# Altium integrated library TI_Logic_Specialty_Logic.IntLib: 2504 symbols (part 42 of 81)
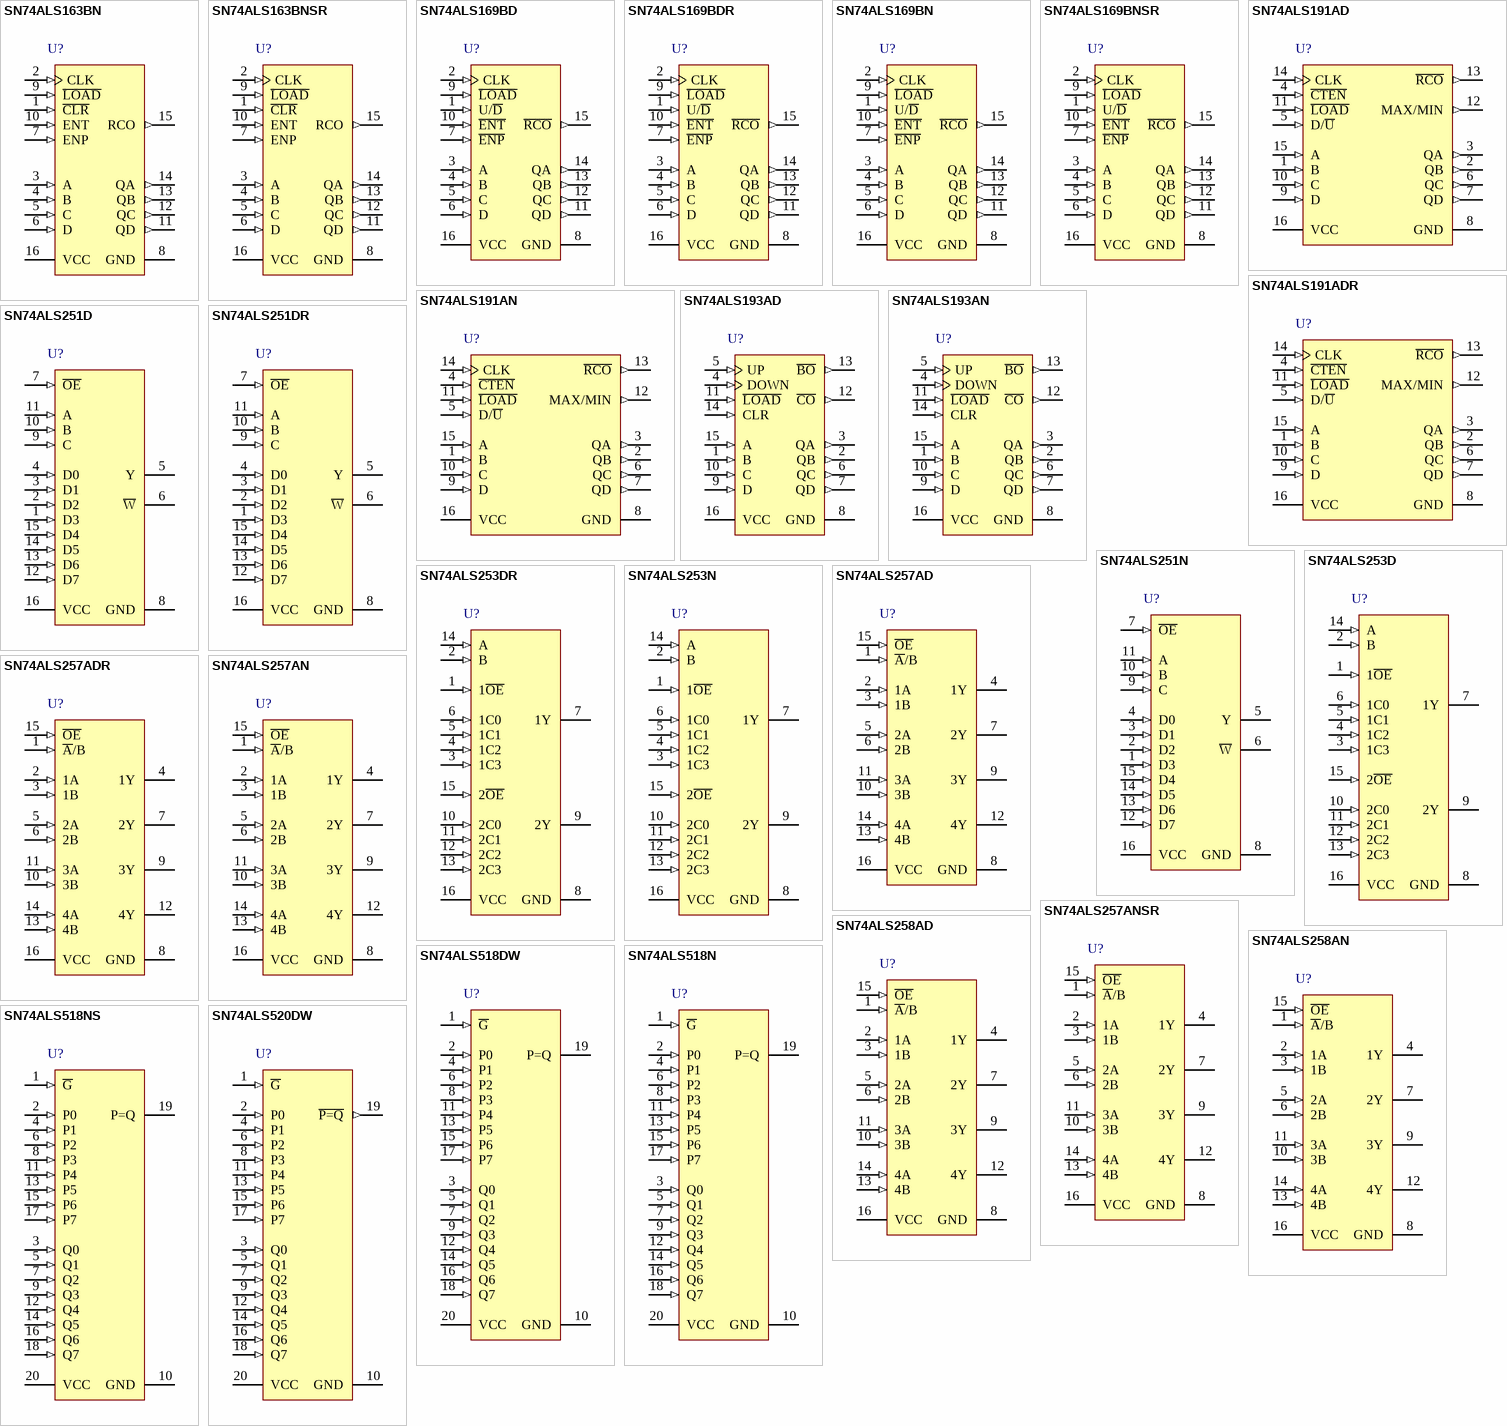
[diagram p145: symbols SN74ALS163BN to SN74ALS520DW]

## SN74ALS169BDR
designator U?
4-Bit Synchronous Up/Down Binary Counters, D0016A, LARGE T&R; Generic Part Number: SN74ALS169B; Manufacturer: Texas Instruments; PartNumber: SN74ALS169BDR; VCC(Min)(V): 4.5; VCC(Max)(V): 5.5; Output Type: CMOS; Inputs: 1; ICC @ Nom Voltage(Max)(mA): 25; Input Type: TTL; Bits(#): 4; F @ Nom Voltage(Max)(Mhz): 75; Rating: Catalog; Technology Family: ALS; Voltage(Nom)(V): 5; Schmitt Trigger: No; Output Drive (IOL/IOH)(Max)(mA): 8/-0.4; tpd @ Nom Voltage(Max)(ns): 20; DatasheetVersion: SDAS125B; PackageReference: D0016A; Supplier 1: Mouser; Supplier Part Number 1: 595-SN74ALS169BDR; Supplier 2: Digi-Key; Supplier Part Number 2: 296-38224-2-ND; Supplier 3: Digi-Key; Supplier Part Number 3: 296-38224-1-ND; Supplier 4: Digi-Key; Supplier Part Number 4: 296-38224-6-ND; Function: Counter; Operating Temperature Range(C): 0 to 70; Type: Binary; Code_JEDEC: MS-012 variation AC; ComponentLink1Description: Manufacturer URL; ComponentLink1URL: http://www.ti.com/; ComponentLink2Description: Datasheet; ComponentLink2URL: http://www.ti.com/lit/ds/symlink/sn74als169b.pdf; ComponentLink3Description: Package Specification; ComponentLink3URL: http://www.ti.com/lit/ml/mpds178g/mpds178g.pdf
footprint D0016A_N (SOIC, 16-Leads, Body 10x4mm, Pitch 1.27mm, IPC Medium Density)
footprint D0016A_M (SOIC, 16-Leads, Body 10x4mm, Pitch 1.27mm, IPC Low Density)
footprint D0016A_L (SOIC, 16-Leads, Body 10x4mm, Pitch 1.27mm, IPC High Density)
pins: 1 U/~{D} (in), 2 CLK (in), 3 A (in), 4 B (in), 5 C (in), 6 D (in), 7 ~{ENP} (in), 8 GND (power), 9 ~{LOAD} (in), 10 ~{ENT} (in), 11 QD (out), 12 QC (out), 13 QB (out), 14 QA (out), 15 ~{RCO} (out), 16 VCC (power)

## SN74ALS169BN
designator U?
4-Bit Synchronous Up/Down Binary Counters, N0016A, TUBE; Generic Part Number: SN74ALS169B; Manufacturer: Texas Instruments; PartNumber: SN74ALS169BN; VCC(Min)(V): 4.5; VCC(Max)(V): 5.5; Output Type: CMOS; Inputs: 1; ICC @ Nom Voltage(Max)(mA): 25; Input Type: TTL; Bits(#): 4; F @ Nom Voltage(Max)(Mhz): 75; Rating: Catalog; Technology Family: ALS; Voltage(Nom)(V): 5; Schmitt Trigger: No; Output Drive (IOL/IOH)(Max)(mA): 8/-0.4; tpd @ Nom Voltage(Max)(ns): 20; DatasheetVersion: SDAS125B; PackageReference: N0016A; Supplier 1: Mouser; Supplier Part Number 1: 595-SN74ALS169BN; Supplier 2: Digi-Key; Supplier Part Number 2: 296-33718-5-ND; Function: Counter; Operating Temperature Range(C): 0 to 70; Type: Binary; Code_JEDEC: MS-001; ComponentLink1Description: Manufacturer URL; ComponentLink1URL: http://www.ti.com/; ComponentLink2Description: Datasheet; ComponentLink2URL: http://www.ti.com/lit/ds/symlink/sn74als169b.pdf; ComponentLink3Description: Package Specification; ComponentLink3URL: http://www.ti.com/lit/ml/mpdi002c/mpdi002c.pdf
footprint N0016A (DIP, 16-Leads, Body 19.7x6.6mm, Pitch 2.54mm)
pins: 1 U/~{D} (in), 2 CLK (in), 3 A (in), 4 B (in), 5 C (in), 6 D (in), 7 ~{ENP} (in), 8 GND (power), 9 ~{LOAD} (in), 10 ~{ENT} (in), 11 QD (out), 12 QC (out), 13 QB (out), 14 QA (out), 15 ~{RCO} (out), 16 VCC (power)

## SN74ALS169BNSR
designator U?
4-Bit Synchronous Up/Down Binary Counters, NS0016A, LARGE T&R; Generic Part Number: SN74ALS169B; Manufacturer: Texas Instruments; PartNumber: SN74ALS169BNSR; VCC(Min)(V): 4.5; VCC(Max)(V): 5.5; Output Type: CMOS; Inputs: 1; ICC @ Nom Voltage(Max)(mA): 25; Input Type: TTL; Bits(#): 4; F @ Nom Voltage(Max)(Mhz): 75; Rating: Catalog; Technology Family: ALS; Voltage(Nom)(V): 5; Schmitt Trigger: No; Output Drive (IOL/IOH)(Max)(mA): 8/-0.4; tpd @ Nom Voltage(Max)(ns): 20; DatasheetVersion: SDAS125B; PackageReference: NS0016A; Supplier 1: Mouser; Supplier Part Number 1: 595-SN74ALS169BNSR; Supplier 2: Digi-Key; Supplier Part Number 2: 296-13148-2-ND; Supplier 3: Digi-Key; Supplier Part Number 3: 296-13148-1-ND; Supplier 4: Digi-Key; Supplier Part Number 4: 296-13148-6-ND; Function: Counter; Operating Temperature Range(C): 0 to 70; Type: Binary; ComponentLink1Description: Manufacturer URL; ComponentLink1URL: http://www.ti.com/; ComponentLink2Description: Datasheet; ComponentLink2URL: http://www.ti.com/lit/ds/symlink/sn74als169b.pdf; ComponentLink3Description: Package Specification; ComponentLink3URL: http://www.ti.com/lit/ml/msop002a/msop002a.pdf
footprint NS0016A_N (SOIC,16-Leads,Body 10.5x5.6mm,Pitch 1.27mm,IPC Medium Density)
footprint NS0016A_M (SOIC,16-Leads,Body 10.5x5.6mm,Pitch 1.27mm,IPC Low Density)
footprint NS0016A_L (SOIC,16-Leads,Body 10.5x5.6mm,Pitch 1.27mm,IPC High Density)
pins: 1 U/~{D} (in), 2 CLK (in), 3 A (in), 4 B (in), 5 C (in), 6 D (in), 7 ~{ENP} (in), 8 GND (power), 9 ~{LOAD} (in), 10 ~{ENT} (in), 11 QD (out), 12 QC (out), 13 QB (out), 14 QA (out), 15 ~{RCO} (out), 16 VCC (power)

## SN74ALS191AD
designator U?
4-Bit Synchronous Up/Down Binary Counters, D0016A, TUBE; Generic Part Number: SN74ALS191A; Manufacturer: Texas Instruments; PartNumber: SN74ALS191AD; VCC(Min)(V): 4.5; VCC(Max)(V): 5.5; Output Type: CMOS; Inputs: 1; ICC @ Nom Voltage(Max)(mA): 22; Input Type: TTL; Bits(#): 4; F @ Nom Voltage(Max)(Mhz): 75; Rating: Catalog; Technology Family: ALS; Voltage(Nom)(V): 5; Schmitt Trigger: No; Output Drive (IOL/IOH)(Max)(mA): 8/-0.4; tpd @ Nom Voltage(Max)(ns): 31; DatasheetVersion: SDAS210C; PackageReference: D0016A; Supplier 1: Mouser; Supplier Part Number 1: 595-SN74ALS191AD; Supplier 2: Digi-Key; Supplier Part Number 2: SN74ALS191AD-ND; Function: Counter; Operating Temperature Range(C): 0 to 70; Type: Binary; Code_JEDEC: MS-012 variation AC; ComponentLink1Description: Manufacturer URL; ComponentLink1URL: http://www.ti.com/; ComponentLink2Description: Datasheet; ComponentLink2URL: http://www.ti.com/lit/ds/symlink/sn74als191a.pdf; ComponentLink3Description: Package Specification; ComponentLink3URL: http://www.ti.com/lit/ml/mpds178g/mpds178g.pdf
footprint D0016A_N (SOIC, 16-Leads, Body 10x4mm, Pitch 1.27mm, IPC Medium Density)
footprint D0016A_M (SOIC, 16-Leads, Body 10x4mm, Pitch 1.27mm, IPC Low Density)
footprint D0016A_L (SOIC, 16-Leads, Body 10x4mm, Pitch 1.27mm, IPC High Density)
pins: 1 B (in), 2 QB (out), 3 QA (out), 4 ~{CTEN} (in), 5 D/~{U} (in), 6 QC (out), 7 QD (out), 8 GND (power), 9 D (in), 10 C (in), 11 ~{LOAD} (in), 12 MAX/MIN (out), 13 ~{RCO} (out), 14 CLK (in), 15 A (in), 16 VCC (power)

## SN74ALS191ADR
designator U?
4-Bit Synchronous Up/Down Binary Counters, D0016A, LARGE T&R; Generic Part Number: SN74ALS191A; Manufacturer: Texas Instruments; PartNumber: SN74ALS191ADR; VCC(Min)(V): 4.5; VCC(Max)(V): 5.5; Output Type: CMOS; Inputs: 1; ICC @ Nom Voltage(Max)(mA): 22; Input Type: TTL; Bits(#): 4; F @ Nom Voltage(Max)(Mhz): 75; Rating: Catalog; Technology Family: ALS; Voltage(Nom)(V): 5; Schmitt Trigger: No; Output Drive (IOL/IOH)(Max)(mA): 8/-0.4; tpd @ Nom Voltage(Max)(ns): 31; DatasheetVersion: SDAS210C; PackageReference: D0016A; Supplier 1: Mouser; Supplier Part Number 1: 595-SN74ALS191ADR; Supplier 2: Digi-Key; Supplier Part Number 2: 296-29442-2-ND; Supplier 3: Digi-Key; Supplier Part Number 3: 296-29442-1-ND; Supplier 4: Digi-Key; Supplier Part Number 4: 296-29442-6-ND; Function: Counter; Operating Temperature Range(C): 0 to 70; Type: Binary; Code_JEDEC: MS-012 variation AC; ComponentLink1Description: Manufacturer URL; ComponentLink1URL: http://www.ti.com/; ComponentLink2Description: Datasheet; ComponentLink2URL: http://www.ti.com/lit/ds/symlink/sn74als191a.pdf; ComponentLink3Description: Package Specification; ComponentLink3URL: http://www.ti.com/lit/ml/mpds178g/mpds178g.pdf
footprint D0016A_N (SOIC, 16-Leads, Body 10x4mm, Pitch 1.27mm, IPC Medium Density)
footprint D0016A_M (SOIC, 16-Leads, Body 10x4mm, Pitch 1.27mm, IPC Low Density)
footprint D0016A_L (SOIC, 16-Leads, Body 10x4mm, Pitch 1.27mm, IPC High Density)
pins: 1 B (in), 2 QB (out), 3 QA (out), 4 ~{CTEN} (in), 5 D/~{U} (in), 6 QC (out), 7 QD (out), 8 GND (power), 9 D (in), 10 C (in), 11 ~{LOAD} (in), 12 MAX/MIN (out), 13 ~{RCO} (out), 14 CLK (in), 15 A (in), 16 VCC (power)

## SN74ALS191AN
designator U?
4-Bit Synchronous Up/Down Binary Counters, N0016A, TUBE; Generic Part Number: SN74ALS191A; Manufacturer: Texas Instruments; PartNumber: SN74ALS191AN; VCC(Min)(V): 4.5; VCC(Max)(V): 5.5; Output Type: CMOS; Inputs: 1; ICC @ Nom Voltage(Max)(mA): 22; Input Type: TTL; Bits(#): 4; F @ Nom Voltage(Max)(Mhz): 75; Rating: Catalog; Technology Family: ALS; Voltage(Nom)(V): 5; Schmitt Trigger: No; Output Drive (IOL/IOH)(Max)(mA): 8/-0.4; tpd @ Nom Voltage(Max)(ns): 31; DatasheetVersion: SDAS210C; PackageReference: N0016A; Supplier 1: Mouser; Supplier Part Number 1: 595-SN74ALS191AN; Supplier 2: Digi-Key; Supplier Part Number 2: 296-5034-5-ND; Function: Counter; Operating Temperature Range(C): 0 to 70; Type: Binary; Code_JEDEC: MS-001; ComponentLink1Description: Manufacturer URL; ComponentLink1URL: http://www.ti.com/; ComponentLink2Description: Datasheet; ComponentLink2URL: http://www.ti.com/lit/ds/symlink/sn74als191a.pdf; ComponentLink3Description: Package Specification; ComponentLink3URL: http://www.ti.com/lit/ml/mpdi002c/mpdi002c.pdf
footprint N0016A (DIP, 16-Leads, Body 19.7x6.6mm, Pitch 2.54mm)
pins: 1 B (in), 2 QB (out), 3 QA (out), 4 ~{CTEN} (in), 5 D/~{U} (in), 6 QC (out), 7 QD (out), 8 GND (power), 9 D (in), 10 C (in), 11 ~{LOAD} (in), 12 MAX/MIN (out), 13 ~{RCO} (out), 14 CLK (in), 15 A (in), 16 VCC (power)

## SN74ALS193AD
designator U?
4-Bit Synchronous Up/Down Binary Counters With Dual Clock and Clear, D0016A, TUBE; Generic Part Number: SN74ALS193A; Manufacturer: Texas Instruments; PartNumber: SN74ALS193AD; VCC(Min)(V): 4.5; VCC(Max)(V): 5.5; Output Type: CMOS; Inputs: 1; ICC @ Nom Voltage(Max)(mA): 22; Input Type: TTL; Bits(#): 4; F @ Nom Voltage(Max)(Mhz): 75; Rating: Catalog; Technology Family: ALS; Voltage(Nom)(V): 5; Schmitt Trigger: No; Output Drive (IOL/IOH)(Max)(mA): 8/-0.4; tpd @ Nom Voltage(Max)(ns): 30; DatasheetVersion: SDAS211C; PackageReference: D0016A; Supplier 1: Mouser; Supplier Part Number 1: 595-SN74ALS193AD; Supplier 2: Digi-Key; Supplier Part Number 2: 296-5035-5-ND; Function: Counter; Operating Temperature Range(C): 0 to 70; Type: Binary; Code_JEDEC: MS-012 variation AC; ComponentLink1Description: Manufacturer URL; ComponentLink1URL: http://www.ti.com/; ComponentLink2Description: Datasheet; ComponentLink2URL: http://www.ti.com/lit/ds/symlink/sn74als193a.pdf; ComponentLink3Description: Package Specification; ComponentLink3URL: http://www.ti.com/lit/ml/mpds178g/mpds178g.pdf
footprint D0016A_N (SOIC, 16-Leads, Body 10x4mm, Pitch 1.27mm, IPC Medium Density)
footprint D0016A_M (SOIC, 16-Leads, Body 10x4mm, Pitch 1.27mm, IPC Low Density)
footprint D0016A_L (SOIC, 16-Leads, Body 10x4mm, Pitch 1.27mm, IPC High Density)
pins: 1 B (in), 2 QB (out), 3 QA (out), 4 DOWN (in), 5 UP (in), 6 QC (out), 7 QD (out), 8 GND (power), 9 D (in), 10 C (in), 11 ~{LOAD} (in), 12 ~{CO} (out), 13 ~{BO} (out), 14 CLR (in), 15 A (in), 16 VCC (power)

## SN74ALS193AN
designator U?
4-Bit Synchronous Up/Down Binary Counters With Dual Clock and Clear, N0016A, TUBE; Generic Part Number: SN74ALS193A; Manufacturer: Texas Instruments; PartNumber: SN74ALS193AN; VCC(Min)(V): 4.5; VCC(Max)(V): 5.5; Output Type: CMOS; Inputs: 1; ICC @ Nom Voltage(Max)(mA): 22; Input Type: TTL; Bits(#): 4; F @ Nom Voltage(Max)(Mhz): 75; Rating: Catalog; Technology Family: ALS; Voltage(Nom)(V): 5; Schmitt Trigger: No; Output Drive (IOL/IOH)(Max)(mA): 8/-0.4; tpd @ Nom Voltage(Max)(ns): 30; DatasheetVersion: SDAS211C; PackageReference: N0016A; Supplier 1: Mouser; Supplier Part Number 1: 595-SN74ALS193AN; Supplier 2: Digi-Key; Supplier Part Number 2: 296-14722-5-ND; Function: Counter; Operating Temperature Range(C): 0 to 70; Type: Binary; Code_JEDEC: MS-001; ComponentLink1Description: Manufacturer URL; ComponentLink1URL: http://www.ti.com/; ComponentLink2Description: Datasheet; ComponentLink2URL: http://www.ti.com/lit/ds/symlink/sn74als193a.pdf; ComponentLink3Description: Package Specification; ComponentLink3URL: http://www.ti.com/lit/ml/mpdi002c/mpdi002c.pdf
footprint N0016A (DIP, 16-Leads, Body 19.7x6.6mm, Pitch 2.54mm)
pins: 1 B (in), 2 QB (out), 3 QA (out), 4 DOWN (in), 5 UP (in), 6 QC (out), 7 QD (out), 8 GND (power), 9 D (in), 10 C (in), 11 ~{LOAD} (in), 12 ~{CO} (out), 13 ~{BO} (out), 14 CLR (in), 15 A (in), 16 VCC (power)

## SN74ALS251D
designator U?
1-of-8 Data Selectors/Multiplexers With 3-State Outputs, D0016A, TUBE; Generic Part Number: SN74ALS251; Manufacturer: Texas Instruments; PartNumber: SN74ALS251D; VCC(Min)(V): 4.5; VCC(Max)(V): 5.5; Output Type: TTL; Function: Encoder/Multiplexer; ICC @ Nom Voltage(Max)(mA): 14; Bits(#): 8; F @ Nom Voltage(Max)(Mhz): 75; Configuration: 8：1; Channels(#): 1; Rating: Catalog; Technology Family: ALS; Voltage(Nom)(V): 5; Schmitt Trigger: No; Output Drive (IOL/IOH)(Max)(mA): 24/-2.6; tpd @ Nom Voltage(Max)(ns): 24; DatasheetVersion: SDAS215A; PackageReference: D0016A; Supplier 1: Mouser; Supplier Part Number 1: 595-SN74ALS251D; Supplier 2: Digi-Key; Supplier Part Number 2: 296-33728-5-ND; Input Type: TTL; Operating Temperature Range(C): 0 to 70; Type: 3-State Output; Code_JEDEC: MS-012 variation AC; ComponentLink1Description: Manufacturer URL; ComponentLink1URL: http://www.ti.com/; ComponentLink2Description: Datasheet; ComponentLink2URL: http://www.ti.com/lit/ds/symlink/sn74als251.pdf; ComponentLink3Description: Package Specification; ComponentLink3URL: http://www.ti.com/lit/ml/mpds178g/mpds178g.pdf
footprint D0016A_N (SOIC, 16-Leads, Body 10x4mm, Pitch 1.27mm, IPC Medium Density)
footprint D0016A_M (SOIC, 16-Leads, Body 10x4mm, Pitch 1.27mm, IPC Low Density)
footprint D0016A_L (SOIC, 16-Leads, Body 10x4mm, Pitch 1.27mm, IPC High Density)
pins: 1 D3 (in), 2 D2 (in), 3 D1 (in), 4 D0 (in), 5 Y (hiz), 6 ~{W} (hiz), 7 ~{OE} (in), 8 GND (power), 9 C (in), 10 B (in), 11 A (in), 12 D7 (in), 13 D6 (in), 14 D5 (in), 15 D4 (in), 16 VCC (power)

## SN74ALS251DR
designator U?
1-of-8 Data Selectors/Multiplexers With 3-State Outputs, D0016A, LARGE T&R; Generic Part Number: SN74ALS251; Manufacturer: Texas Instruments; PartNumber: SN74ALS251DR; VCC(Min)(V): 4.5; VCC(Max)(V): 5.5; Output Type: TTL; Function: Encoder/Multiplexer; ICC @ Nom Voltage(Max)(mA): 14; Bits(#): 8; F @ Nom Voltage(Max)(Mhz): 75; Configuration: 8：1; Channels(#): 1; Rating: Catalog; Technology Family: ALS; Voltage(Nom)(V): 5; Schmitt Trigger: No; Output Drive (IOL/IOH)(Max)(mA): 24/-2.6; tpd @ Nom Voltage(Max)(ns): 24; DatasheetVersion: SDAS215A; PackageReference: D0016A; Supplier 1: Mouser; Supplier Part Number 1: 595-SN74ALS251DR; Supplier 2: Digi-Key; Supplier Part Number 2: 296-29443-2-ND; Supplier 3: Digi-Key; Supplier Part Number 3: 296-29443-1-ND; Supplier 4: Digi-Key; Supplier Part Number 4: 296-29443-6-ND; Input Type: TTL; Operating Temperature Range(C): 0 to 70; Type: 3-State Output; Code_JEDEC: MS-012 variation AC; ComponentLink1Description: Manufacturer URL; ComponentLink1URL: http://www.ti.com/; ComponentLink2Description: Datasheet; ComponentLink2URL: http://www.ti.com/lit/ds/symlink/sn74als251.pdf; ComponentLink3Description: Package Specification; ComponentLink3URL: http://www.ti.com/lit/ml/mpds178g/mpds178g.pdf
footprint D0016A_N (SOIC, 16-Leads, Body 10x4mm, Pitch 1.27mm, IPC Medium Density)
footprint D0016A_M (SOIC, 16-Leads, Body 10x4mm, Pitch 1.27mm, IPC Low Density)
footprint D0016A_L (SOIC, 16-Leads, Body 10x4mm, Pitch 1.27mm, IPC High Density)
pins: 1 D3 (in), 2 D2 (in), 3 D1 (in), 4 D0 (in), 5 Y (hiz), 6 ~{W} (hiz), 7 ~{OE} (in), 8 GND (power), 9 C (in), 10 B (in), 11 A (in), 12 D7 (in), 13 D6 (in), 14 D5 (in), 15 D4 (in), 16 VCC (power)

## SN74ALS251N
designator U?
1-of-8 Data Selectors/Multiplexers With 3-State Outputs, N0016A, TUBE; Generic Part Number: SN74ALS251; Manufacturer: Texas Instruments; PartNumber: SN74ALS251N; VCC(Min)(V): 4.5; VCC(Max)(V): 5.5; Output Type: TTL; Function: Encoder/Multiplexer; ICC @ Nom Voltage(Max)(mA): 14; Bits(#): 8; F @ Nom Voltage(Max)(Mhz): 75; Configuration: 8：1; Channels(#): 1; Rating: Catalog; Technology Family: ALS; Voltage(Nom)(V): 5; Schmitt Trigger: No; Output Drive (IOL/IOH)(Max)(mA): 24/-2.6; tpd @ Nom Voltage(Max)(ns): 24; DatasheetVersion: SDAS215A; PackageReference: N0016A; Supplier 1: Mouser; Supplier Part Number 1: 595-SN74ALS251N; Supplier 2: Digi-Key; Supplier Part Number 2: 296-33729-5-ND; Input Type: TTL; Operating Temperature Range(C): 0 to 70; Type: 3-State Output; Code_JEDEC: MS-001; ComponentLink1Description: Manufacturer URL; ComponentLink1URL: http://www.ti.com/; ComponentLink2Description: Datasheet; ComponentLink2URL: http://www.ti.com/lit/ds/symlink/sn74als251.pdf; ComponentLink3Description: Package Specification; ComponentLink3URL: http://www.ti.com/lit/ml/mpdi002c/mpdi002c.pdf
footprint N0016A (DIP, 16-Leads, Body 19.7x6.6mm, Pitch 2.54mm)
pins: 1 D3 (in), 2 D2 (in), 3 D1 (in), 4 D0 (in), 5 Y (hiz), 6 ~{W} (hiz), 7 ~{OE} (in), 8 GND (power), 9 C (in), 10 B (in), 11 A (in), 12 D7 (in), 13 D6 (in), 14 D5 (in), 15 D4 (in), 16 VCC (power)

## SN74ALS253D
designator U?
Dual 1-of-4 Data Selectors/Multiplexers With 3-State Outputs, D0016A, TUBE; Generic Part Number: SN74ALS253; Manufacturer: Texas Instruments; PartNumber: SN74ALS253D; VCC(Min)(V): 4.5; VCC(Max)(V): 5.5; Output Type: TTL; Function: Encoder/Multiplexer; ICC @ Nom Voltage(Max)(mA): 14; Bits(#): 4; F @ Nom Voltage(Max)(Mhz): 75; Configuration: 4：1; Channels(#): 2; Rating: Catalog; Technology Family: ALS; Voltage(Nom)(V): 5; Schmitt Trigger: No; Output Drive (IOL/IOH)(Max)(mA): 24/-2.6; tpd @ Nom Voltage(Max)(ns): 21; DatasheetVersion: SDAS216A; PackageReference: D0016A; Supplier 1: Mouser; Supplier Part Number 1: 595-SN74ALS253D; Supplier 2: Digi-Key; Supplier Part Number 2: 296-33730-5-ND; Input Type: TTL; Operating Temperature Range(C): 0 to 70; Type: 3-State Output; Code_JEDEC: MS-012 variation AC; ComponentLink1Description: Manufacturer URL; ComponentLink1URL: http://www.ti.com/; ComponentLink2Description: Datasheet; ComponentLink2URL: http://www.ti.com/lit/ds/symlink/sn74als253.pdf; ComponentLink3Description: Package Specification; ComponentLink3URL: http://www.ti.com/lit/ml/mpds178g/mpds178g.pdf
footprint D0016A_N (SOIC, 16-Leads, Body 10x4mm, Pitch 1.27mm, IPC Medium Density)
footprint D0016A_M (SOIC, 16-Leads, Body 10x4mm, Pitch 1.27mm, IPC Low Density)
footprint D0016A_L (SOIC, 16-Leads, Body 10x4mm, Pitch 1.27mm, IPC High Density)
pins: 1 1~{OE} (in), 2 B (in), 3 1C3 (in), 4 1C2 (in), 5 1C1 (in), 6 1C0 (in), 7 1Y (hiz), 8 GND (power), 9 2Y (hiz), 10 2C0 (in), 11 2C1 (in), 12 2C2 (in), 13 2C3 (in), 14 A (in), 15 2~{OE} (in), 16 VCC (power)

## SN74ALS253DR
designator U?
Dual 1-of-4 Data Selectors/Multiplexers With 3-State Outputs, D0016A, LARGE T&R; Generic Part Number: SN74ALS253; Manufacturer: Texas Instruments; PartNumber: SN74ALS253DR; VCC(Min)(V): 4.5; VCC(Max)(V): 5.5; Output Type: TTL; Function: Encoder/Multiplexer; ICC @ Nom Voltage(Max)(mA): 14; Bits(#): 4; F @ Nom Voltage(Max)(Mhz): 75; Configuration: 4：1; Channels(#): 2; Rating: Catalog; Technology Family: ALS; Voltage(Nom)(V): 5; Schmitt Trigger: No; Output Drive (IOL/IOH)(Max)(mA): 24/-2.6; tpd @ Nom Voltage(Max)(ns): 21; DatasheetVersion: SDAS216A; PackageReference: D0016A; Supplier 1: Mouser; Supplier Part Number 1: 595-SN74ALS253DR; Supplier 2: Digi-Key; Supplier Part Number 2: SN74ALS253DR-ND; Input Type: TTL; Operating Temperature Range(C): 0 to 70; Type: 3-State Output; Code_JEDEC: MS-012 variation AC; ComponentLink1Description: Manufacturer URL; ComponentLink1URL: http://www.ti.com/; ComponentLink2Description: Datasheet; ComponentLink2URL: http://www.ti.com/lit/ds/symlink/sn74als253.pdf; ComponentLink3Description: Package Specification; ComponentLink3URL: http://www.ti.com/lit/ml/mpds178g/mpds178g.pdf
footprint D0016A_N (SOIC, 16-Leads, Body 10x4mm, Pitch 1.27mm, IPC Medium Density)
footprint D0016A_M (SOIC, 16-Leads, Body 10x4mm, Pitch 1.27mm, IPC Low Density)
footprint D0016A_L (SOIC, 16-Leads, Body 10x4mm, Pitch 1.27mm, IPC High Density)
pins: 1 1~{OE} (in), 2 B (in), 3 1C3 (in), 4 1C2 (in), 5 1C1 (in), 6 1C0 (in), 7 1Y (hiz), 8 GND (power), 9 2Y (hiz), 10 2C0 (in), 11 2C1 (in), 12 2C2 (in), 13 2C3 (in), 14 A (in), 15 2~{OE} (in), 16 VCC (power)

## SN74ALS253N
designator U?
Dual 1-of-4 Data Selectors/Multiplexers With 3-State Outputs, N0016A, TUBE; Generic Part Number: SN74ALS253; Manufacturer: Texas Instruments; PartNumber: SN74ALS253N; VCC(Min)(V): 4.5; VCC(Max)(V): 5.5; Output Type: TTL; Function: Encoder/Multiplexer; ICC @ Nom Voltage(Max)(mA): 14; Bits(#): 4; F @ Nom Voltage(Max)(Mhz): 75; Configuration: 4：1; Channels(#): 2; Rating: Catalog; Technology Family: ALS; Voltage(Nom)(V): 5; Schmitt Trigger: No; Output Drive (IOL/IOH)(Max)(mA): 24/-2.6; tpd @ Nom Voltage(Max)(ns): 21; DatasheetVersion: SDAS216A; PackageReference: N0016A; Supplier 1: Mouser; Supplier Part Number 1: 595-SN74ALS253N; Supplier 2: Digi-Key; Supplier Part Number 2: 296-33731-5-ND; Input Type: TTL; Operating Temperature Range(C): 0 to 70; Type: 3-State Output; Code_JEDEC: MS-001; ComponentLink1Description: Manufacturer URL; ComponentLink1URL: http://www.ti.com/; ComponentLink2Description: Datasheet; ComponentLink2URL: http://www.ti.com/lit/ds/symlink/sn74als253.pdf; ComponentLink3Description: Package Specification; ComponentLink3URL: http://www.ti.com/lit/ml/mpdi002c/mpdi002c.pdf
footprint N0016A (DIP, 16-Leads, Body 19.7x6.6mm, Pitch 2.54mm)
pins: 1 1~{OE} (in), 2 B (in), 3 1C3 (in), 4 1C2 (in), 5 1C1 (in), 6 1C0 (in), 7 1Y (hiz), 8 GND (power), 9 2Y (hiz), 10 2C0 (in), 11 2C1 (in), 12 2C2 (in), 13 2C3 (in), 14 A (in), 15 2~{OE} (in), 16 VCC (power)

## SN74ALS257AD
designator U?
Quadruple 2-Line To 1-Line Data Selectors/Multiplexers With 3-State Outputs, D0016A, TUBE; Generic Part Number: SN74ALS257A; Manufacturer: Texas Instruments; PartNumber: SN74ALS257AD; VCC(Min)(V): 4.5; VCC(Max)(V): 5.5; Output Type: TTL; Function: Encoder/Multiplexer; ICC @ Nom Voltage(Max)(mA): 14; Bits(#): 2; F @ Nom Voltage(Max)(Mhz): 75; Configuration: 2：1; Channels(#): 4; Rating: Catalog; Technology Family: ALS; Voltage(Nom)(V): 5; Schmitt Trigger: No; Output Drive (IOL/IOH)(Max)(mA): 24/-2.6; tpd @ Nom Voltage(Max)(ns): 12; DatasheetVersion: SDAS124C; PackageReference: D0016A; Supplier 1: Mouser; Supplier Part Number 1: 595-SN74ALS257AD; Supplier 2: Digi-Key; Supplier Part Number 2: 296-5050-5-ND; Input Type: TTL; Operating Temperature Range(C): 0 to 70; Type: 3-State Output; Code_JEDEC: MS-012 variation AC; ComponentLink1Description: Manufacturer URL; ComponentLink1URL: http://www.ti.com/; ComponentLink2Description: Datasheet; ComponentLink2URL: http://www.ti.com/lit/ds/symlink/sn74als257a.pdf; ComponentLink3Description: Package Specification; ComponentLink3URL: http://www.ti.com/lit/ml/mpds178g/mpds178g.pdf
footprint D0016A_N (SOIC, 16-Leads, Body 10x4mm, Pitch 1.27mm, IPC Medium Density)
footprint D0016A_M (SOIC, 16-Leads, Body 10x4mm, Pitch 1.27mm, IPC Low Density)
footprint D0016A_L (SOIC, 16-Leads, Body 10x4mm, Pitch 1.27mm, IPC High Density)
pins: 1 ~{A}/B (in), 2 1A (in), 3 1B (in), 4 1Y (hiz), 5 2A (in), 6 2B (in), 7 2Y (hiz), 8 GND (power), 9 3Y (hiz), 10 3B (in), 11 3A (in), 12 4Y (hiz), 13 4B (in), 14 4A (in), 15 ~{OE} (in), 16 VCC (power)

## SN74ALS257ADR
designator U?
Quadruple 2-Line To 1-Line Data Selectors/Multiplexers With 3-State Outputs, D0016A, LARGE T&R; Generic Part Number: SN74ALS257A; Manufacturer: Texas Instruments; PartNumber: SN74ALS257ADR; VCC(Min)(V): 4.5; VCC(Max)(V): 5.5; Output Type: TTL; Function: Encoder/Multiplexer; ICC @ Nom Voltage(Max)(mA): 14; Bits(#): 2; F @ Nom Voltage(Max)(Mhz): 75; Configuration: 2：1; Channels(#): 4; Rating: Catalog; Technology Family: ALS; Voltage(Nom)(V): 5; Schmitt Trigger: No; Output Drive (IOL/IOH)(Max)(mA): 24/-2.6; tpd @ Nom Voltage(Max)(ns): 12; DatasheetVersion: SDAS124C; PackageReference: D0016A; Supplier 1: Mouser; Supplier Part Number 1: 595-SN74ALS257ADR; Supplier 2: Digi-Key; Supplier Part Number 2: 296-14728-2-ND; Supplier 3: Digi-Key; Supplier Part Number 3: 296-14728-1-ND; Supplier 4: Digi-Key; Supplier Part Number 4: 296-14728-6-ND; Input Type: TTL; Operating Temperature Range(C): 0 to 70; Type: 3-State Output; Code_JEDEC: MS-012 variation AC; ComponentLink1Description: Manufacturer URL; ComponentLink1URL: http://www.ti.com/; ComponentLink2Description: Datasheet; ComponentLink2URL: http://www.ti.com/lit/ds/symlink/sn74als257a.pdf; ComponentLink3Description: Package Specification; ComponentLink3URL: http://www.ti.com/lit/ml/mpds178g/mpds178g.pdf
footprint D0016A_N (SOIC, 16-Leads, Body 10x4mm, Pitch 1.27mm, IPC Medium Density)
footprint D0016A_M (SOIC, 16-Leads, Body 10x4mm, Pitch 1.27mm, IPC Low Density)
footprint D0016A_L (SOIC, 16-Leads, Body 10x4mm, Pitch 1.27mm, IPC High Density)
pins: 1 ~{A}/B (in), 2 1A (in), 3 1B (in), 4 1Y (hiz), 5 2A (in), 6 2B (in), 7 2Y (hiz), 8 GND (power), 9 3Y (hiz), 10 3B (in), 11 3A (in), 12 4Y (hiz), 13 4B (in), 14 4A (in), 15 ~{OE} (in), 16 VCC (power)

## SN74ALS257AN
designator U?
Quadruple 2-Line To 1-Line Data Selectors/Multiplexers With 3-State Outputs, N0016A, TUBE; Generic Part Number: SN74ALS257A; Manufacturer: Texas Instruments; PartNumber: SN74ALS257AN; VCC(Min)(V): 4.5; VCC(Max)(V): 5.5; Output Type: TTL; Function: Encoder/Multiplexer; ICC @ Nom Voltage(Max)(mA): 14; Bits(#): 2; F @ Nom Voltage(Max)(Mhz): 75; Configuration: 2：1; Channels(#): 4; Rating: Catalog; Technology Family: ALS; Voltage(Nom)(V): 5; Schmitt Trigger: No; Output Drive (IOL/IOH)(Max)(mA): 24/-2.6; tpd @ Nom Voltage(Max)(ns): 12; DatasheetVersion: SDAS124C; PackageReference: N0016A; Supplier 1: Mouser; Supplier Part Number 1: 595-SN74ALS257AN; Supplier 2: Digi-Key; Supplier Part Number 2: 296-5051-5-ND; Input Type: TTL; Operating Temperature Range(C): 0 to 70; Type: 3-State Output; Code_JEDEC: MS-001; ComponentLink1Description: Manufacturer URL; ComponentLink1URL: http://www.ti.com/; ComponentLink2Description: Datasheet; ComponentLink2URL: http://www.ti.com/lit/ds/symlink/sn74als257a.pdf; ComponentLink3Description: Package Specification; ComponentLink3URL: http://www.ti.com/lit/ml/mpdi002c/mpdi002c.pdf
footprint N0016A (DIP, 16-Leads, Body 19.7x6.6mm, Pitch 2.54mm)
pins: 1 ~{A}/B (in), 2 1A (in), 3 1B (in), 4 1Y (hiz), 5 2A (in), 6 2B (in), 7 2Y (hiz), 8 GND (power), 9 3Y (hiz), 10 3B (in), 11 3A (in), 12 4Y (hiz), 13 4B (in), 14 4A (in), 15 ~{OE} (in), 16 VCC (power)

## SN74ALS257ANSR
designator U?
Quadruple 2-Line To 1-Line Data Selectors/Multiplexers With 3-State Outputs, NS0016A, LARGE T&R; Generic Part Number: SN74ALS257A; Manufacturer: Texas Instruments; PartNumber: SN74ALS257ANSR; VCC(Min)(V): 4.5; VCC(Max)(V): 5.5; Output Type: TTL; Function: Encoder/Multiplexer; ICC @ Nom Voltage(Max)(mA): 14; Bits(#): 2; F @ Nom Voltage(Max)(Mhz): 75; Configuration: 2：1; Channels(#): 4; Rating: Catalog; Technology Family: ALS; Voltage(Nom)(V): 5; Schmitt Trigger: No; Output Drive (IOL/IOH)(Max)(mA): 24/-2.6; tpd @ Nom Voltage(Max)(ns): 12; DatasheetVersion: SDAS124C; PackageReference: NS0016A; Supplier 1: Mouser; Supplier Part Number 1: 595-SN74ALS257ANSR; Supplier 2: Digi-Key; Supplier Part Number 2: 296-29171-2-ND; Supplier 3: Digi-Key; Supplier Part Number 3: 296-29171-1-ND; Supplier 4: Digi-Key; Supplier Part Number 4: 296-29171-6-ND; Input Type: TTL; Operating Temperature Range(C): 0 to 70; Type: 3-State Output; ComponentLink1Description: Manufacturer URL; ComponentLink1URL: http://www.ti.com/; ComponentLink2Description: Datasheet; ComponentLink2URL: http://www.ti.com/lit/ds/symlink/sn74als257a.pdf; ComponentLink3Description: Package Specification; ComponentLink3URL: http://www.ti.com/lit/ml/msop002a/msop002a.pdf
footprint NS0016A_N (SOIC,16-Leads,Body 10.5x5.6mm,Pitch 1.27mm,IPC Medium Density)
footprint NS0016A_M (SOIC,16-Leads,Body 10.5x5.6mm,Pitch 1.27mm,IPC Low Density)
footprint NS0016A_L (SOIC,16-Leads,Body 10.5x5.6mm,Pitch 1.27mm,IPC High Density)
pins: 1 ~{A}/B (in), 2 1A (in), 3 1B (in), 4 1Y (hiz), 5 2A (in), 6 2B (in), 7 2Y (hiz), 8 GND (power), 9 3Y (hiz), 10 3B (in), 11 3A (in), 12 4Y (hiz), 13 4B (in), 14 4A (in), 15 ~{OE} (in), 16 VCC (power)

## SN74ALS258AD
designator U?
Quadruple 2-Line To 1-Line Data Selectors/Multiplexers With 3-State Outputs, D0016A, TUBE; Generic Part Number: SN74ALS258A; Manufacturer: Texas Instruments; PartNumber: SN74ALS258AD; VCC(Min)(V): 4.5; VCC(Max)(V): 5.5; Output Type: TTL; Function: Encoder/Multiplexer; ICC @ Nom Voltage(Max)(mA): 13; Bits(#): 2; F @ Nom Voltage(Max)(Mhz): 75; Configuration: 2：1; Channels(#): 4; Rating: Catalog; Technology Family: ALS; Voltage(Nom)(V): 5; Schmitt Trigger: No; Output Drive (IOL/IOH)(Max)(mA): 24/-2.6; tpd @ Nom Voltage(Max)(ns): 8; DatasheetVersion: SDAS124C; PackageReference: D0016A; Supplier 1: Mouser; Supplier Part Number 1: 595-SN74ALS258AD; Supplier 2: Digi-Key; Supplier Part Number 2: 296-5052-5-ND; Input Type: TTL; Operating Temperature Range(C): 0 to 70; Type: 3-State Output; Code_JEDEC: MS-012 variation AC; ComponentLink1Description: Manufacturer URL; ComponentLink1URL: http://www.ti.com/; ComponentLink2Description: Datasheet; ComponentLink2URL: http://www.ti.com/lit/ds/symlink/sn74als258a.pdf; ComponentLink3Description: Package Specification; ComponentLink3URL: http://www.ti.com/lit/ml/mpds178g/mpds178g.pdf
footprint D0016A_N (SOIC, 16-Leads, Body 10x4mm, Pitch 1.27mm, IPC Medium Density)
footprint D0016A_M (SOIC, 16-Leads, Body 10x4mm, Pitch 1.27mm, IPC Low Density)
footprint D0016A_L (SOIC, 16-Leads, Body 10x4mm, Pitch 1.27mm, IPC High Density)
pins: 1 ~{A}/B (in), 2 1A (in), 3 1B (in), 4 1Y (hiz), 5 2A (in), 6 2B (in), 7 2Y (hiz), 8 GND (power), 9 3Y (hiz), 10 3B (in), 11 3A (in), 12 4Y (hiz), 13 4B (in), 14 4A (in), 15 ~{OE} (in), 16 VCC (power)

## SN74ALS258AN
designator U?
Quadruple 2-Line To 1-Line Data Selectors/Multiplexers With 3-State Outputs, N0016A, TUBE; Generic Part Number: SN74ALS258A; Manufacturer: Texas Instruments; PartNumber: SN74ALS258AN; VCC(Min)(V): 4.5; VCC(Max)(V): 5.5; Output Type: TTL; Function: Encoder/Multiplexer; ICC @ Nom Voltage(Max)(mA): 13; Bits(#): 2; F @ Nom Voltage(Max)(Mhz): 75; Configuration: 2：1; Channels(#): 4; Rating: Catalog; Technology Family: ALS; Voltage(Nom)(V): 5; Schmitt Trigger: No; Output Drive (IOL/IOH)(Max)(mA): 24/-2.6; tpd @ Nom Voltage(Max)(ns): 8; DatasheetVersion: SDAS124C; PackageReference: N0016A; Supplier 1: Mouser; Supplier Part Number 1: 595-SN74ALS258AN; Supplier 2: Digi-Key; Supplier Part Number 2: SN74ALS258AN-ND; Input Type: TTL; Operating Temperature Range(C): 0 to 70; Type: 3-State Output; Code_JEDEC: MS-001; ComponentLink1Description: Manufacturer URL; ComponentLink1URL: http://www.ti.com/; ComponentLink2Description: Datasheet; ComponentLink2URL: http://www.ti.com/lit/ds/symlink/sn74als258a.pdf; ComponentLink3Description: Package Specification; ComponentLink3URL: http://www.ti.com/lit/ml/mpdi002c/mpdi002c.pdf
footprint N0016A (DIP, 16-Leads, Body 19.7x6.6mm, Pitch 2.54mm)
pins: 1 ~{A}/B (in), 2 1A (in), 3 1B (in), 4 1Y (hiz), 5 2A (in), 6 2B (in), 7 2Y (hiz), 8 GND (power), 9 3Y (hiz), 10 3B (in), 11 3A (in), 12 4Y (hiz), 13 4B (in), 14 4A (in), 15 ~{OE} (in), 16 VCC (power)

## SN74ALS518DW
designator U?
8-Bit Identity Comparators (P=Q) w/ Enable, Open Collector Outputs, 20K Ohm Q-Input Pullup Resistor, DW0020A, TUBE; Generic Part Number: SN74ALS518; Manufacturer: Texas Instruments; PartNumber: SN74ALS518DW; VCC(Min)(V): 4.5; VCC(Max)(V): 5.5; Output Type: TTL; ICC @ Nom Voltage(Max)(mA): 17; Bits(#): 8; F @ Nom Voltage(Max)(Mhz): 75; Rating: Catalog; Technology Family: ALS; Schmitt Trigger: No; Output Drive (IOL/IOH)(Max)(mA): 24/-0.1; tpd @ Nom Voltage(Max)(ns): 33; DatasheetVersion: SDAS224B; PackageReference: DW0020A; Supplier 1: Mouser; Supplier Part Number 1: 595-SN74ALS518DW; Supplier 2: Digi-Key; Supplier Part Number 2: 296-33741-5-ND; Input Type: TTL; Operating Temperature Range(C): 0 to 70; Voltage(Nom)(V): 5.5; ComponentLink1Description: Manufacturer URL; ComponentLink1URL: http://www.ti.com/; ComponentLink2Description: Datasheet; ComponentLink2URL: http://www.ti.com/lit/ds/symlink/sn74als518.pdf
footprint DW0020A_N (SOIC, 20-Leads, Body 13x7.6mm, Pitch 1.27mm, IPC Medium Density)
footprint DW0020A_M (SOIC, 20-Leads, Body 13x7.6mm, Pitch 1.27mm, IPC Low Density)
footprint DW0020A_L (SOIC, 20-Leads, Body 13x7.6mm, Pitch 1.27mm, IPC High Density)
pins: 1 ~{G} (in), 2 P0 (in), 3 Q0 (in), 4 P1 (in), 5 Q1 (in), 6 P2 (in), 7 Q2 (in), 8 P3 (in), 9 Q3 (in), 10 GND (power), 11 P4 (in), 12 Q4 (in), 13 P5 (in), 14 Q5 (in), 15 P6 (in), 16 Q6 (in), 17 P7 (in), 18 Q7 (in), 19 P=Q (oc), 20 VCC (power)

## SN74ALS518N
designator U?
8-Bit Identity Comparators (P=Q) w/ Enable, Open Collector Outputs, 20K Ohm Q-Input Pullup Resistor, N0020A, TUBE; Generic Part Number: SN74ALS518; Manufacturer: Texas Instruments; PartNumber: SN74ALS518N; VCC(Min)(V): 4.5; VCC(Max)(V): 5.5; Output Type: TTL; ICC @ Nom Voltage(Max)(mA): 17; Bits(#): 8; F @ Nom Voltage(Max)(Mhz): 75; Rating: Catalog; Technology Family: ALS; Schmitt Trigger: No; Output Drive (IOL/IOH)(Max)(mA): 24/-0.1; tpd @ Nom Voltage(Max)(ns): 33; DatasheetVersion: SDAS224B; PackageReference: N0020A; Supplier 1: Mouser; Supplier Part Number 1: 595-SN74ALS518N; Supplier 2: Digi-Key; Supplier Part Number 2: 296-33742-5-ND; Input Type: TTL; Operating Temperature Range(C): 0 to 70; Voltage(Nom)(V): 5.5; ComponentLink1Description: Manufacturer URL; ComponentLink1URL: http://www.ti.com/; ComponentLink2Description: Datasheet; ComponentLink2URL: http://www.ti.com/lit/ds/symlink/sn74als518.pdf
footprint N0020A (DIP, 20-Leads, Body 26.9x6.6mm, Pitch 2.54mm)
pins: 1 ~{G} (in), 2 P0 (in), 3 Q0 (in), 4 P1 (in), 5 Q1 (in), 6 P2 (in), 7 Q2 (in), 8 P3 (in), 9 Q3 (in), 10 GND (power), 11 P4 (in), 12 Q4 (in), 13 P5 (in), 14 Q5 (in), 15 P6 (in), 16 Q6 (in), 17 P7 (in), 18 Q7 (in), 19 P=Q (oc), 20 VCC (power)

## SN74ALS518NS
designator U?
8-Bit Identity Comparators (P=Q) w/ Enable, Open Collector Outputs, 20K Ohm Q-Input Pullup Resistor, NS0020A; Generic Part Number: SN74ALS518; Manufacturer: Texas Instruments; PartNumber: SN74ALS518NS; VCC(Min)(V): 4.5; VCC(Max)(V): 5.5; Output Type: TTL; ICC @ Nom Voltage(Max)(mA): 17; Bits(#): 8; F @ Nom Voltage(Max)(Mhz): 75; Rating: Catalog; Technology Family: ALS; Schmitt Trigger: No; Output Drive (IOL/IOH)(Max)(mA): 24/-0.1; tpd @ Nom Voltage(Max)(ns): 33; DatasheetVersion: SDAS224B; PackageReference: NS0020A; Supplier 1: Mouser; Supplier Part Number 1: N/A; Input Type: TTL; Operating Temperature Range(C): 0 to 70; Voltage(Nom)(V): 5.5; ComponentLink1Description: Manufacturer URL; ComponentLink1URL: http://www.ti.com/; ComponentLink2Description: Datasheet; ComponentLink2URL: http://www.ti.com/lit/ds/symlink/sn74als518.pdf
footprint NS0020A_N (SOIC,20-Leads,Body 12.9x5.6mm,Pitch 1.27mm,IPC Medium Density)
footprint NS0020A_M (SOIC,20-Leads,Body 12.9x5.6mm,Pitch 1.27mm,IPC Low Density)
footprint NS0020A_L (SOIC,20-Leads,Body 12.9x5.6mm,Pitch 1.27mm,IPC High Density)
pins: 1 ~{G} (in), 2 P0 (in), 3 Q0 (in), 4 P1 (in), 5 Q1 (in), 6 P2 (in), 7 Q2 (in), 8 P3 (in), 9 Q3 (in), 10 GND (power), 11 P4 (in), 12 Q4 (in), 13 P5 (in), 14 Q5 (in), 15 P6 (in), 16 Q6 (in), 17 P7 (in), 18 Q7 (in), 19 P=Q (oc), 20 VCC (power)

## SN74ALS520DW
designator U?
8-Bit Identity Comparators (P=Q) with Enable and 20K Ohm Q-Input Pullup Resistors, DW0020A, TUBE; Generic Part Number: SN74ALS520; Manufacturer: Texas Instruments; PartNumber: SN74ALS520DW; VCC(Min)(V): 4.5; VCC(Max)(V): 5.5; Output Type: TTL; ICC @ Nom Voltage(Max)(mA): 19; Bits(#): 8; F @ Nom Voltage(Max)(Mhz): 75; Rating: Catalog; Technology Family: ALS; Schmitt Trigger: No; Output Drive (IOL/IOH)(Max)(mA): 24/-2.6; tpd @ Nom Voltage(Max)(ns): 20; DatasheetVersion: SDAS224B; PackageReference: DW0020A; Supplier 1: Mouser; Supplier Part Number 1: 595-SN74ALS520DW; Supplier 2: Digi-Key; Supplier Part Number 2: 296-5061-5-ND; Input Type: TTL; Operating Temperature Range(C): 0 to 70; Voltage(Nom)(V): 5.5; ComponentLink1Description: Manufacturer URL; ComponentLink1URL: http://www.ti.com/; ComponentLink2Description: Datasheet; ComponentLink2URL: http://www.ti.com/lit/ds/symlink/sn74als520.pdf
footprint DW0020A_N (SOIC, 20-Leads, Body 13x7.6mm, Pitch 1.27mm, IPC Medium Density)
footprint DW0020A_M (SOIC, 20-Leads, Body 13x7.6mm, Pitch 1.27mm, IPC Low Density)
footprint DW0020A_L (SOIC, 20-Leads, Body 13x7.6mm, Pitch 1.27mm, IPC High Density)
pins: 1 ~{G} (in), 2 P0 (in), 3 Q0 (in), 4 P1 (in), 5 Q1 (in), 6 P2 (in), 7 Q2 (in), 8 P3 (in), 9 Q3 (in), 10 GND (power), 11 P4 (in), 12 Q4 (in), 13 P5 (in), 14 Q5 (in), 15 P6 (in), 16 Q6 (in), 17 P7 (in), 18 Q7 (in), 19 ~{P=Q} (out), 20 VCC (power)

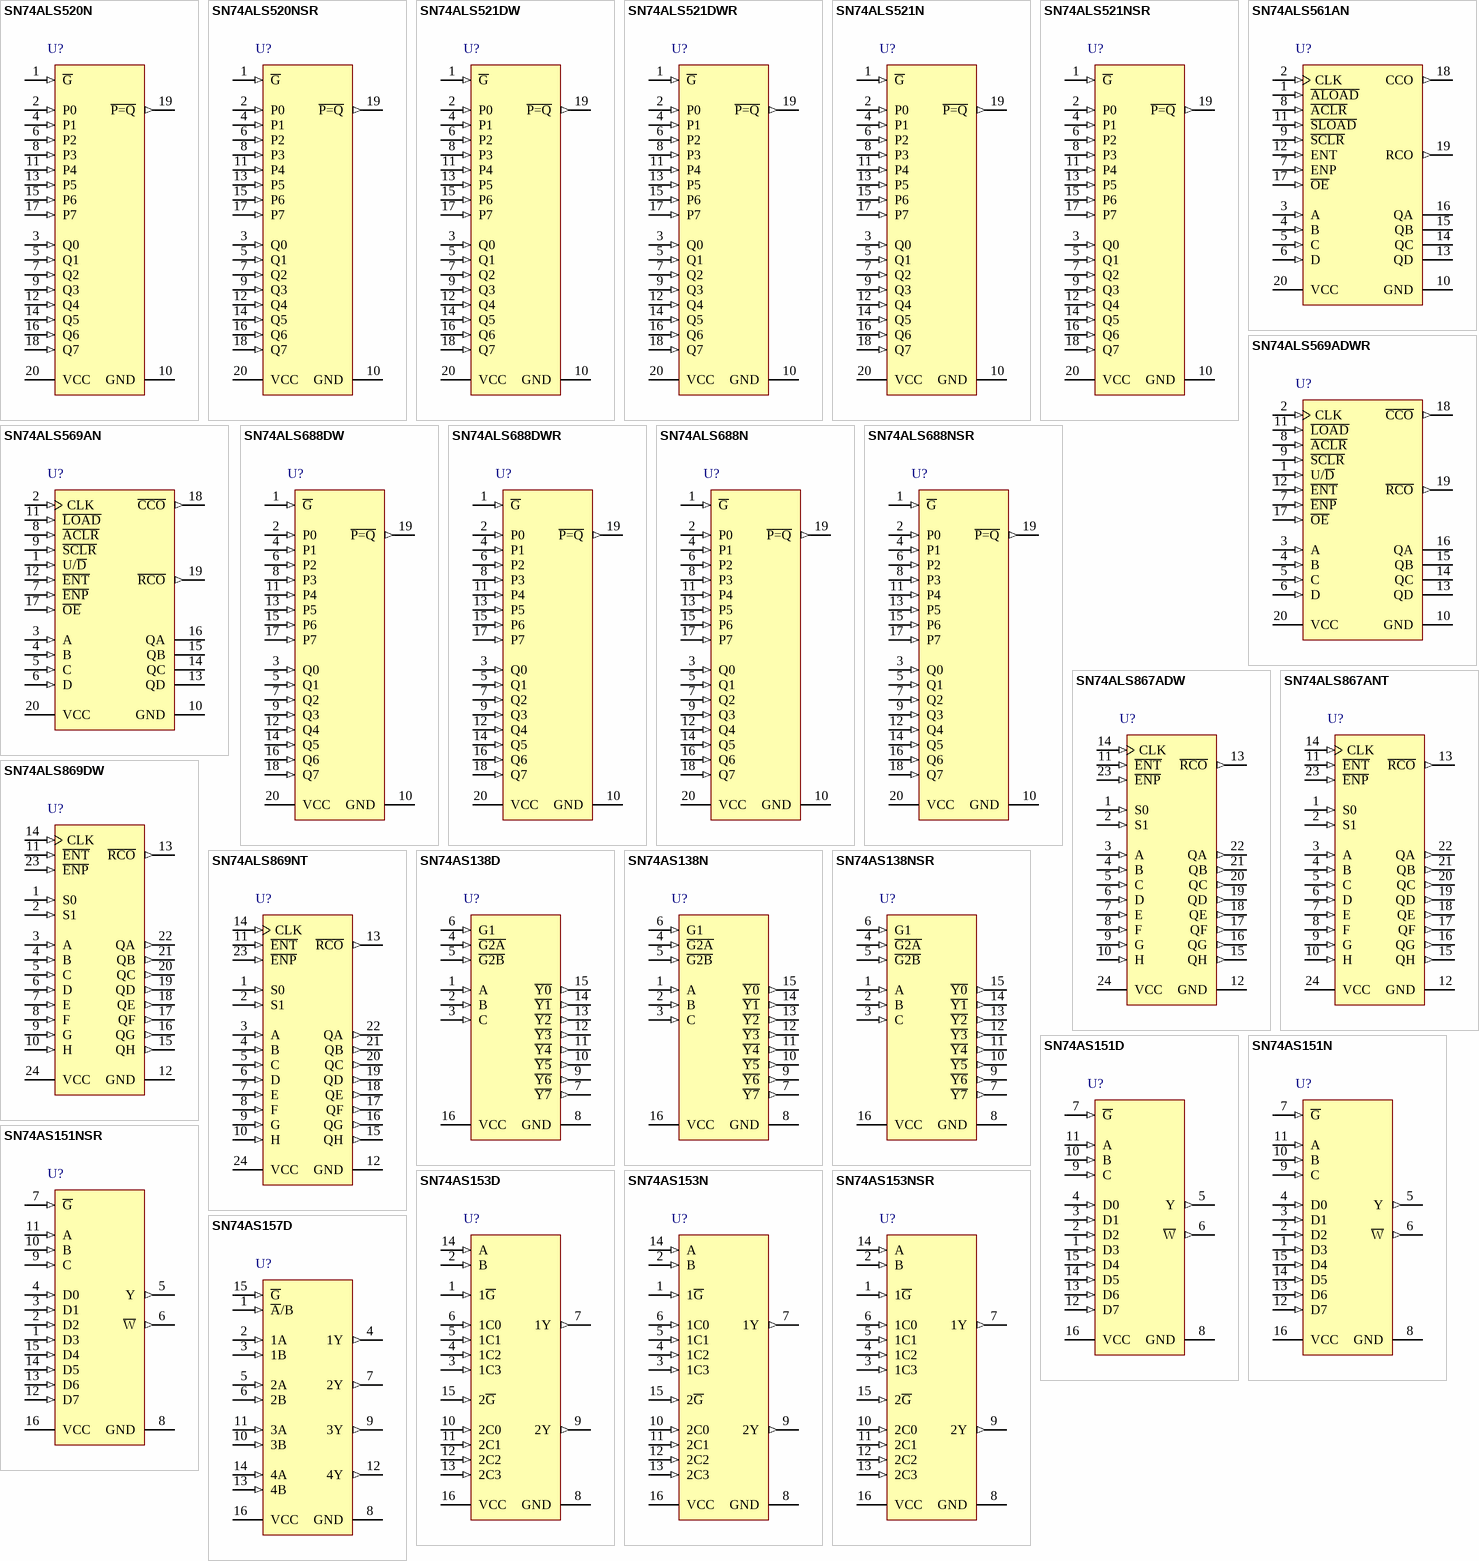
[diagram p55: symbols SN74ALS520N to SN74AS157D]

## SN74ALS520N
designator U?
8-Bit Identity Comparators (P=Q) with Enable and 20K Ohm Q-Input Pullup Resistors, N0020A, TUBE; Generic Part Number: SN74ALS520; Manufacturer: Texas Instruments; PartNumber: SN74ALS520N; VCC(Min)(V): 4.5; VCC(Max)(V): 5.5; Output Type: TTL; ICC @ Nom Voltage(Max)(mA): 19; Bits(#): 8; F @ Nom Voltage(Max)(Mhz): 75; Rating: Catalog; Technology Family: ALS; Schmitt Trigger: No; Output Drive (IOL/IOH)(Max)(mA): 24/-2.6; tpd @ Nom Voltage(Max)(ns): 20; DatasheetVersion: SDAS224B; PackageReference: N0020A; Supplier 1: Mouser; Supplier Part Number 1: 595-SN74ALS520N; Supplier 2: Digi-Key; Supplier Part Number 2: 296-14739-5-ND; Input Type: TTL; Operating Temperature Range(C): 0 to 70; Voltage(Nom)(V): 5.5; ComponentLink1Description: Manufacturer URL; ComponentLink1URL: http://www.ti.com/; ComponentLink2Description: Datasheet; ComponentLink2URL: http://www.ti.com/lit/ds/symlink/sn74als520.pdf
footprint N0020A (DIP, 20-Leads, Body 26.9x6.6mm, Pitch 2.54mm)
pins: 1 ~{G} (in), 2 P0 (in), 3 Q0 (in), 4 P1 (in), 5 Q1 (in), 6 P2 (in), 7 Q2 (in), 8 P3 (in), 9 Q3 (in), 10 GND (power), 11 P4 (in), 12 Q4 (in), 13 P5 (in), 14 Q5 (in), 15 P6 (in), 16 Q6 (in), 17 P7 (in), 18 Q7 (in), 19 ~{P=Q} (out), 20 VCC (power)

## SN74ALS520NSR
designator U?
8-Bit Identity Comparators (P=Q) with Enable and 20K Ohm Q-Input Pullup Resistors, NS0020A, LARGE T&R; Generic Part Number: SN74ALS520; Manufacturer: Texas Instruments; PartNumber: SN74ALS520NSR; VCC(Min)(V): 4.5; VCC(Max)(V): 5.5; Output Type: TTL; ICC @ Nom Voltage(Max)(mA): 19; Bits(#): 8; F @ Nom Voltage(Max)(Mhz): 75; Rating: Catalog; Technology Family: ALS; Schmitt Trigger: No; Output Drive (IOL/IOH)(Max)(mA): 24/-2.6; tpd @ Nom Voltage(Max)(ns): 20; DatasheetVersion: SDAS224B; PackageReference: NS0020A; Supplier 1: Mouser; Supplier Part Number 1: 595-SN74ALS520NSR; Supplier 2: Digi-Key; Supplier Part Number 2: 296-28845-2-ND; Supplier 3: Digi-Key; Supplier Part Number 3: 296-28845-1-ND; Supplier 4: Digi-Key; Supplier Part Number 4: 296-28845-6-ND; Input Type: TTL; Operating Temperature Range(C): 0 to 70; Voltage(Nom)(V): 5.5; ComponentLink1Description: Manufacturer URL; ComponentLink1URL: http://www.ti.com/; ComponentLink2Description: Datasheet; ComponentLink2URL: http://www.ti.com/lit/ds/symlink/sn74als520.pdf
footprint NS0020A_N (SOIC,20-Leads,Body 12.9x5.6mm,Pitch 1.27mm,IPC Medium Density)
footprint NS0020A_M (SOIC,20-Leads,Body 12.9x5.6mm,Pitch 1.27mm,IPC Low Density)
footprint NS0020A_L (SOIC,20-Leads,Body 12.9x5.6mm,Pitch 1.27mm,IPC High Density)
pins: 1 ~{G} (in), 2 P0 (in), 3 Q0 (in), 4 P1 (in), 5 Q1 (in), 6 P2 (in), 7 Q2 (in), 8 P3 (in), 9 Q3 (in), 10 GND (power), 11 P4 (in), 12 Q4 (in), 13 P5 (in), 14 Q5 (in), 15 P6 (in), 16 Q6 (in), 17 P7 (in), 18 Q7 (in), 19 ~{P=Q} (out), 20 VCC (power)

## SN74ALS521DW
designator U?
8-Bit Identity/Magnitude Comparators (P=Q) with Enable, DW0020A, TUBE; Generic Part Number: SN74ALS521; Manufacturer: Texas Instruments; PartNumber: SN74ALS521DW; VCC(Min)(V): 4.5; VCC(Max)(V): 5.5; Output Type: TTL; ICC @ Nom Voltage(Max)(mA): 19; Bits(#): 8; F @ Nom Voltage(Max)(Mhz): 75; Rating: Catalog; Technology Family: ALS; Schmitt Trigger: No; Output Drive (IOL/IOH)(Max)(mA): 24/-2.6; tpd @ Nom Voltage(Max)(ns): 22; DatasheetVersion: SDAS224B; PackageReference: DW0020A; Supplier 1: Mouser; Supplier Part Number 1: 595-SN74ALS521DW; Supplier 2: Digi-Key; Supplier Part Number 2: 296-5062-5-ND; Input Type: TTL; Operating Temperature Range(C): 0 to 70; Voltage(Nom)(V): 5.5; ComponentLink1Description: Manufacturer URL; ComponentLink1URL: http://www.ti.com/; ComponentLink2Description: Datasheet; ComponentLink2URL: http://www.ti.com/lit/ds/symlink/sn74als521.pdf
footprint DW0020A_N (SOIC, 20-Leads, Body 13x7.6mm, Pitch 1.27mm, IPC Medium Density)
footprint DW0020A_M (SOIC, 20-Leads, Body 13x7.6mm, Pitch 1.27mm, IPC Low Density)
footprint DW0020A_L (SOIC, 20-Leads, Body 13x7.6mm, Pitch 1.27mm, IPC High Density)
pins: 1 ~{G} (in), 2 P0 (in), 3 Q0 (in), 4 P1 (in), 5 Q1 (in), 6 P2 (in), 7 Q2 (in), 8 P3 (in), 9 Q3 (in), 10 GND (power), 11 P4 (in), 12 Q4 (in), 13 P5 (in), 14 Q5 (in), 15 P6 (in), 16 Q6 (in), 17 P7 (in), 18 Q7 (in), 19 ~{P=Q} (out), 20 VCC (power)

## SN74ALS521DWR
designator U?
8-Bit Identity/Magnitude Comparators (P=Q) with Enable, DW0020A, LARGE T&R; Generic Part Number: SN74ALS521; Manufacturer: Texas Instruments; PartNumber: SN74ALS521DWR; VCC(Min)(V): 4.5; VCC(Max)(V): 5.5; Output Type: TTL; ICC @ Nom Voltage(Max)(mA): 19; Bits(#): 8; F @ Nom Voltage(Max)(Mhz): 75; Rating: Catalog; Technology Family: ALS; Schmitt Trigger: No; Output Drive (IOL/IOH)(Max)(mA): 24/-2.6; tpd @ Nom Voltage(Max)(ns): 22; DatasheetVersion: SDAS224B; PackageReference: DW0020A; Supplier 1: Mouser; Supplier Part Number 1: 595-SN74ALS521DWR; Supplier 2: Digi-Key; Supplier Part Number 2: 296-29730-2-ND; Supplier 3: Digi-Key; Supplier Part Number 3: 296-29730-1-ND; Supplier 4: Digi-Key; Supplier Part Number 4: 296-29730-6-ND; Input Type: TTL; Operating Temperature Range(C): 0 to 70; Voltage(Nom)(V): 5.5; ComponentLink1Description: Manufacturer URL; ComponentLink1URL: http://www.ti.com/; ComponentLink2Description: Datasheet; ComponentLink2URL: http://www.ti.com/lit/ds/symlink/sn74als521.pdf
footprint DW0020A_N (SOIC, 20-Leads, Body 13x7.6mm, Pitch 1.27mm, IPC Medium Density)
footprint DW0020A_M (SOIC, 20-Leads, Body 13x7.6mm, Pitch 1.27mm, IPC Low Density)
footprint DW0020A_L (SOIC, 20-Leads, Body 13x7.6mm, Pitch 1.27mm, IPC High Density)
pins: 1 ~{G} (in), 2 P0 (in), 3 Q0 (in), 4 P1 (in), 5 Q1 (in), 6 P2 (in), 7 Q2 (in), 8 P3 (in), 9 Q3 (in), 10 GND (power), 11 P4 (in), 12 Q4 (in), 13 P5 (in), 14 Q5 (in), 15 P6 (in), 16 Q6 (in), 17 P7 (in), 18 Q7 (in), 19 ~{P=Q} (out), 20 VCC (power)

## SN74ALS521N
designator U?
8-Bit Identity/Magnitude Comparators (P=Q) with Enable, N0020A, TUBE; Generic Part Number: SN74ALS521; Manufacturer: Texas Instruments; PartNumber: SN74ALS521N; VCC(Min)(V): 4.5; VCC(Max)(V): 5.5; Output Type: TTL; ICC @ Nom Voltage(Max)(mA): 19; Bits(#): 8; F @ Nom Voltage(Max)(Mhz): 75; Rating: Catalog; Technology Family: ALS; Schmitt Trigger: No; Output Drive (IOL/IOH)(Max)(mA): 24/-2.6; tpd @ Nom Voltage(Max)(ns): 22; DatasheetVersion: SDAS224B; PackageReference: N0020A; Supplier 1: Mouser; Supplier Part Number 1: 595-SN74ALS521N; Supplier 2: Digi-Key; Supplier Part Number 2: 296-33743-5-ND; Input Type: TTL; Operating Temperature Range(C): 0 to 70; Voltage(Nom)(V): 5.5; ComponentLink1Description: Manufacturer URL; ComponentLink1URL: http://www.ti.com/; ComponentLink2Description: Datasheet; ComponentLink2URL: http://www.ti.com/lit/ds/symlink/sn74als521.pdf
footprint N0020A (DIP, 20-Leads, Body 26.9x6.6mm, Pitch 2.54mm)
pins: 1 ~{G} (in), 2 P0 (in), 3 Q0 (in), 4 P1 (in), 5 Q1 (in), 6 P2 (in), 7 Q2 (in), 8 P3 (in), 9 Q3 (in), 10 GND (power), 11 P4 (in), 12 Q4 (in), 13 P5 (in), 14 Q5 (in), 15 P6 (in), 16 Q6 (in), 17 P7 (in), 18 Q7 (in), 19 ~{P=Q} (out), 20 VCC (power)

## SN74ALS521NSR
designator U?
8-Bit Identity/Magnitude Comparators (P=Q) with Enable, NS0020A, LARGE T&R; Generic Part Number: SN74ALS521; Manufacturer: Texas Instruments; PartNumber: SN74ALS521NSR; VCC(Min)(V): 4.5; VCC(Max)(V): 5.5; Output Type: TTL; ICC @ Nom Voltage(Max)(mA): 19; Bits(#): 8; F @ Nom Voltage(Max)(Mhz): 75; Rating: Catalog; Technology Family: ALS; Schmitt Trigger: No; Output Drive (IOL/IOH)(Max)(mA): 24/-2.6; tpd @ Nom Voltage(Max)(ns): 22; DatasheetVersion: SDAS224B; PackageReference: NS0020A; Supplier 1: Mouser; Supplier Part Number 1: 595-SN74ALS521NSR; Supplier 2: Digi-Key; Supplier Part Number 2: 296-13151-2-ND; Supplier 3: Digi-Key; Supplier Part Number 3: 296-13151-1-ND; Supplier 4: Digi-Key; Supplier Part Number 4: 296-13151-6-ND; Input Type: TTL; Operating Temperature Range(C): 0 to 70; Voltage(Nom)(V): 5.5; ComponentLink1Description: Manufacturer URL; ComponentLink1URL: http://www.ti.com/; ComponentLink2Description: Datasheet; ComponentLink2URL: http://www.ti.com/lit/ds/symlink/sn74als521.pdf
footprint NS0020A_N (SOIC,20-Leads,Body 12.9x5.6mm,Pitch 1.27mm,IPC Medium Density)
footprint NS0020A_M (SOIC,20-Leads,Body 12.9x5.6mm,Pitch 1.27mm,IPC Low Density)
footprint NS0020A_L (SOIC,20-Leads,Body 12.9x5.6mm,Pitch 1.27mm,IPC High Density)
pins: 1 ~{G} (in), 2 P0 (in), 3 Q0 (in), 4 P1 (in), 5 Q1 (in), 6 P2 (in), 7 Q2 (in), 8 P3 (in), 9 Q3 (in), 10 GND (power), 11 P4 (in), 12 Q4 (in), 13 P5 (in), 14 Q5 (in), 15 P6 (in), 16 Q6 (in), 17 P7 (in), 18 Q7 (in), 19 ~{P=Q} (out), 20 VCC (power)

## SN74ALS561AN
designator U?
Synchronous 4-Bit Binary Counters With 3-State Outputs, N0020A, TUBE; Generic Part Number: SN74ALS561A; Manufacturer: Texas Instruments; PartNumber: SN74ALS561AN; VCC(Min)(V): 4.5; VCC(Max)(V): 5.5; Output Type: CMOS; Inputs: 1; ICC @ Nom Voltage(Max)(mA): 36; Input Type: TTL; Bits(#): 4; F @ Nom Voltage(Max)(Mhz): 75; Rating: Catalog; Technology Family: ALS; Voltage(Nom)(V): 5; Schmitt Trigger: No; Output Drive (IOL/IOH)(Max)(mA): 24/-2.6; tpd @ Nom Voltage(Max)(ns): 29; DatasheetVersion: SDAS225A; PackageReference: N0020A; Supplier 1: Mouser; Supplier Part Number 1: 595-SN74ALS561AN; Supplier 2: Digi-Key; Supplier Part Number 2: SN74ALS561AN-ND; Function: Counter; Operating Temperature Range(C): 0 to 70; Type: Binary; Code_JEDEC: MS-001; ComponentLink1Description: Manufacturer URL; ComponentLink1URL: http://www.ti.com/; ComponentLink2Description: Datasheet; ComponentLink2URL: http://www.ti.com/lit/ds/symlink/sn74als561a.pdf; ComponentLink3Description: Package Specification; ComponentLink3URL: http://www.ti.com/lit/ml/mpdi002c/mpdi002c.pdf
footprint N0020A (DIP, 20-Leads, Body 26.9x6.6mm, Pitch 2.54mm)
pins: 1 ~{ALOAD} (in), 2 CLK (in), 3 A (in), 4 B (in), 5 C (in), 6 D (in), 7 ENP (in), 8 ~{ACLR} (in), 9 ~{SCLR} (in), 10 GND (power), 11 ~{SLOAD} (in), 12 ENT (in), 13 QD (hiz), 14 QC (hiz), 15 QB (hiz), 16 QA (hiz), 17 ~{OE} (in), 18 CCO (out), 19 RCO (out), 20 VCC (power)

## SN74ALS569ADWR
designator U?
Synchronous 4-Bit Up/Down Binary Counters With 3-State Outputs, DW0020A, LARGE T&R; Generic Part Number: SN74ALS569A; Manufacturer: Texas Instruments; PartNumber: SN74ALS569ADWR; VCC(Min)(V): 4.5; VCC(Max)(V): 5.5; Output Type: CMOS; Inputs: 1; ICC @ Nom Voltage(Max)(mA): 32; Input Type: TTL; Bits(#): 4; F @ Nom Voltage(Max)(Mhz): 75; Rating: Catalog; Technology Family: ALS; Voltage(Nom)(V): 5; Schmitt Trigger: No; Output Drive (IOL/IOH)(Max)(mA): 24/-2.6; tpd @ Nom Voltage(Max)(ns): 28; DatasheetVersion: SDAS229A; PackageReference: DW0020A; Supplier 1: Mouser; Supplier Part Number 1: 595-SN74ALS569ADWR; Supplier 2: Digi-Key; Supplier Part Number 2: 296-28798-2-ND; Supplier 3: Digi-Key; Supplier Part Number 3: 296-28798-1-ND; Supplier 4: Digi-Key; Supplier Part Number 4: 296-28798-6-ND; Function: Counter; Operating Temperature Range(C): 0 to 70; Type: Binary; Code_JEDEC: MS-013; ComponentLink1Description: Manufacturer URL; ComponentLink1URL: http://www.ti.com/; ComponentLink2Description: Datasheet; ComponentLink2URL: http://www.ti.com/lit/ds/symlink/sn74als569a.pdf; ComponentLink3Description: Package Specification; ComponentLink3URL: http://www.ti.com/lit/ml/mpds173a/mpds173a.pdf
footprint DW0020A_N (SOIC, 20-Leads, Body 13x7.6mm, Pitch 1.27mm, IPC Medium Density)
footprint DW0020A_M (SOIC, 20-Leads, Body 13x7.6mm, Pitch 1.27mm, IPC Low Density)
footprint DW0020A_L (SOIC, 20-Leads, Body 13x7.6mm, Pitch 1.27mm, IPC High Density)
pins: 1 U/~{D} (in), 2 CLK (in), 3 A (in), 4 B (in), 5 C (in), 6 D (in), 7 ~{ENP} (in), 8 ~{ACLR} (in), 9 ~{SCLR} (in), 10 GND (power), 11 ~{LOAD} (in), 12 ~{ENT} (in), 13 QD (hiz), 14 QC (hiz), 15 QB (hiz), 16 QA (hiz), 17 ~{OE} (in), 18 ~{CCO} (out), 19 ~{RCO} (out), 20 VCC (power)

## SN74ALS569AN
designator U?
Synchronous 4-Bit Up/Down Binary Counters With 3-State Outputs, N0020A, TUBE; Generic Part Number: SN74ALS569A; Manufacturer: Texas Instruments; PartNumber: SN74ALS569AN; VCC(Min)(V): 4.5; VCC(Max)(V): 5.5; Output Type: CMOS; Inputs: 1; ICC @ Nom Voltage(Max)(mA): 32; Input Type: TTL; Bits(#): 4; F @ Nom Voltage(Max)(Mhz): 75; Rating: Catalog; Technology Family: ALS; Voltage(Nom)(V): 5; Schmitt Trigger: No; Output Drive (IOL/IOH)(Max)(mA): 24/-2.6; tpd @ Nom Voltage(Max)(ns): 28; DatasheetVersion: SDAS229A; PackageReference: N0020A; Supplier 1: Mouser; Supplier Part Number 1: 595-SN74ALS569AN; Supplier 2: Digi-Key; Supplier Part Number 2: 296-33750-5-ND; Function: Counter; Operating Temperature Range(C): 0 to 70; Type: Binary; Code_JEDEC: MS-001; ComponentLink1Description: Manufacturer URL; ComponentLink1URL: http://www.ti.com/; ComponentLink2Description: Datasheet; ComponentLink2URL: http://www.ti.com/lit/ds/symlink/sn74als569a.pdf; ComponentLink3Description: Package Specification; ComponentLink3URL: http://www.ti.com/lit/ml/mpdi002c/mpdi002c.pdf
footprint N0020A (DIP, 20-Leads, Body 26.9x6.6mm, Pitch 2.54mm)
pins: 1 U/~{D} (in), 2 CLK (in), 3 A (in), 4 B (in), 5 C (in), 6 D (in), 7 ~{ENP} (in), 8 ~{ACLR} (in), 9 ~{SCLR} (in), 10 GND (power), 11 ~{LOAD} (in), 12 ~{ENT} (in), 13 QD (hiz), 14 QC (hiz), 15 QB (hiz), 16 QA (hiz), 17 ~{OE} (in), 18 ~{CCO} (out), 19 ~{RCO} (out), 20 VCC (power)